# Altium schematic symbol library RSX_Miscellaneous.SchLib: 7 symbols
Pins are listed as number, name and electrical type; pins without a type are passive.

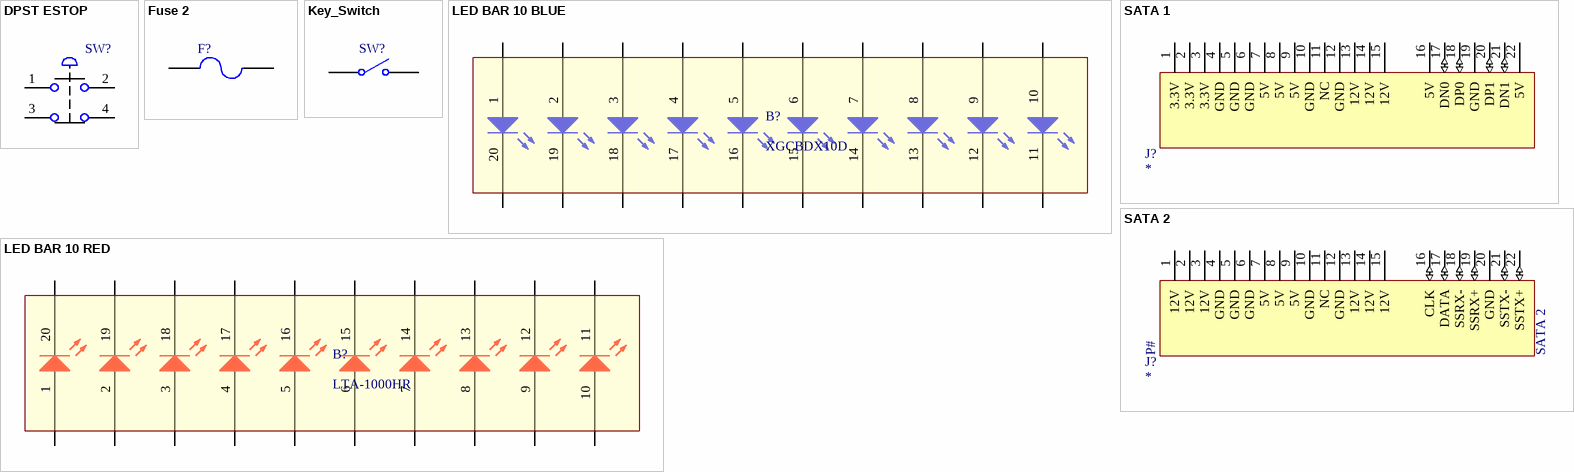
[diagram p0: symbols DPST ESTOP to SATA 2]

## DPST ESTOP
designator SW?, comment NO-NC ESD with light  (value not drawn)
footprint MOLEX 0039281043 (Connector Header Through Hole 4 position 0.165" (4.20mm))
pins: 1, 2, 3, 4

## Fuse 2
designator F?
Fuse; Published: 8-Jun-2000; LatestRevisionDate: 17-Jul-2002; LatestRevisionNote: Re-released for DXP Platform.; PackageReference: PIN-W2/E2.8; Publisher: Altium Limited; PackageDescription: Thru-Hole; 2 Leads
footprint 0157010.DR
pins: 1, 2

## Key_Switch
designator SW?
Published: 24-Mar-1999; LatestRevisionDate: 17-Jul-2002; LatestRevisionNote: Re-released for DXP Platform.; PackageReference: SPST-2; Publisher: Altium Limited; PackageDescription: Switch; 2 Leads
footprint MOLEX_0039293026
pins: 1 COMMON, 2 NO

## LED BAR 10 BLUE
designator B?, comment XGCBDX10D
footprint LED BAR 10pos
pins: 1 A, 2 A, 3 A, 4 A, 5 A, 6 A, 7 A, 8 A, 9 A, 10 A, 11 K, 12 K, 13 K, 14 K, 15 K, 16 K, 17 K, 18 K, 19 K, 20 K

## LED BAR 10 RED
designator B?, comment LTA-1000HR
footprint LED BAR 10pos
pins: 1 A, 2 A, 3 A, 4 A, 5 A, 6 A, 7 A, 8 A, 9 A, 10 A, 11 K, 12 K, 13 K, 14 K, 15 K, 16 K, 17 K, 18 K, 19 K, 20 K

## SATA 1
designator J?
SATA connector. / Connector 1 for option 1 as per Spec; Supplier 1: Digi-Key
footprint SATA Female
footprint SATA Male
footprint Amphenol 10101788-002CLF (MALE R/A SATA SMT)
footprint Amphenol 10017660-001LF (FEMALE SATA TH 22POS)
pins: 1 3.3V (power), 2 3.3V (power), 3 3.3V (power), 4 GND (power), 5 GND (power), 6 GND (power), 7 5V (power), 8 5V (power), 9 5V (power), 10 GND (power), 11 NC, 12 GND (power), 13 12V (power), 14 12V (power), 15 12V (power), 16 5V (power), 17 DN0 (io) "A- on spec", 18 DP0 (io) "A+ on spec", 19 GND (power), 20 DP1 (io) "B+ on spec", 21 DN1 (io) "B- on spec", 22 5V (power)

## SATA 2
designator J?
SATA connector. / Connector 2 for option 1 as per Spec; Supplier 1: Digi-Key
footprint SATA Female
footprint SATA Male
footprint Amphenol 10017660-001LF (FEMALE SATA TH 22POS)
footprint Amphenol 10101788-002CLF (MALE R/A SATA SMT)
pins: 1 12V (power), 2 12V (power), 3 12V (power), 4 GND (power), 5 GND (power), 6 GND (power), 7 5V (power), 8 5V (power), 9 5V (power), 10 GND (power), 11 NC, 12 GND (power), 13 12V (power), 14 12V (power), 15 12V (power), 16 CLK (io), 17 DATA (io) "A- on spec", 18 SSRX- (io) "A+ on spec", 19 SSRX+ (io), 20 GND (power) "B+ on spec", 21 SSTX- (io) "B- on spec", 22 SSTX+ (io)
text: P#